# EAGLE library part REDBEAR_MICRO_USB (library TRACKER SOM EVAL BOARD v1.0)
Micro-USB
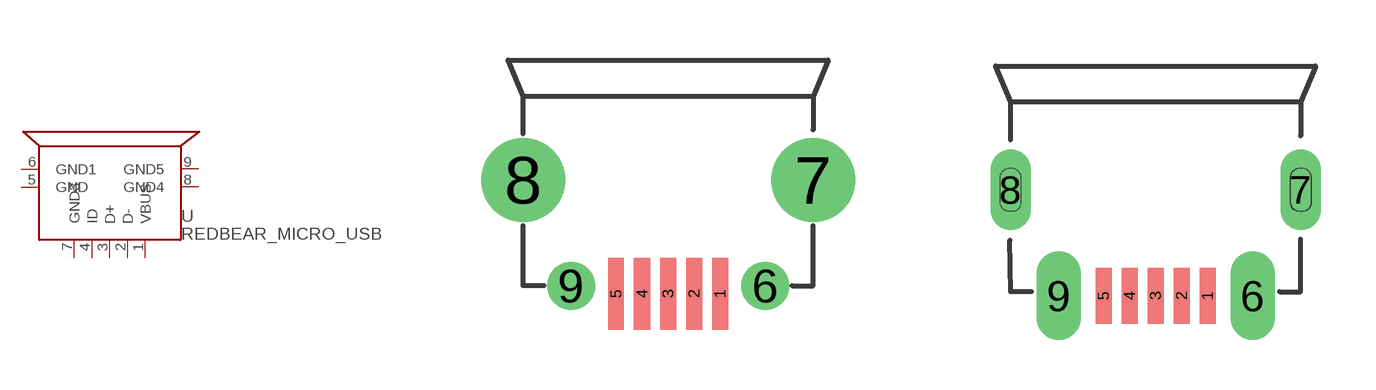
[diagram p6: symbol with the pads of REDBEAR_USB-5PINS-SMT-TOP; footprints REDBEAR_USB-5PINS-SMT-TOP, REDBEAR_MICRO_USB]

Designator prefix -

## REDBEAR_MICRO_USB  [REDBEAR_USB-5PINS-SMT-TOP]
1  VBUS
2  D-
3  D+
4  ID
5  GND
6  GND1
7  GND3
8  GND4
9  GND5

## REDBEAR_MICRO_USBMICRO_5P  [REDBEAR_MICRO_USB]
Pads as for REDBEAR_USB-5PINS-SMT-TOP

## REDBEAR_MICRO_USBMICRO_USB  [REDBEAR_MICRO_USB]
1  VBUS
2  D-
3  D+
4  ID
5  GND3
6  GND
7  GND1
8  GND4
9  GND5

## Footprint REDBEAR_USB-5PINS-SMT-TOP (pad centres in mm)
smd 0.4 x 1.8: 1 1.3,-2.54; 2 0.65,-2.54; 3 0,-2.54; 4 -0.65,-2.54; 5 -1.3,-2.54
drill 0.6 pad 1.2: 6 2.425,-2.34; 9 -2.425,-2.34
drill 1 pad 2.1: 7 3.625,0.31; 8 -3.625,0.31

## Footprint REDBEAR_MICRO_USB (pad centres in mm)
Micro USB
smd 0.4 x 1.4: 1 1.3,0.1; 2 0.65,0.1; 3 0,0.1; 4 -0.65,0.1; 5 -1.3,0.1
drill 0.6 pad 0.75 long: 6 2.425,0.1
drill 0.5 pad 1 long: 7 3.625,2.75; 8 -3.625,2.75
drill 0.6 pad 0.65 long: 9 -2.425,0.1